# Altium footprint library VQFN.PcbLib: 4 footprints
Each footprint in its own frame and in the unit in brackets; x right, y up, seen from the top. Pads: shape width x height; smd on the part's side, far side on the other; paste and mask are expansions set on the pad; w line width, h text height; cw(c..) or ccw(c..) is an arc to the next point about the centre after c.
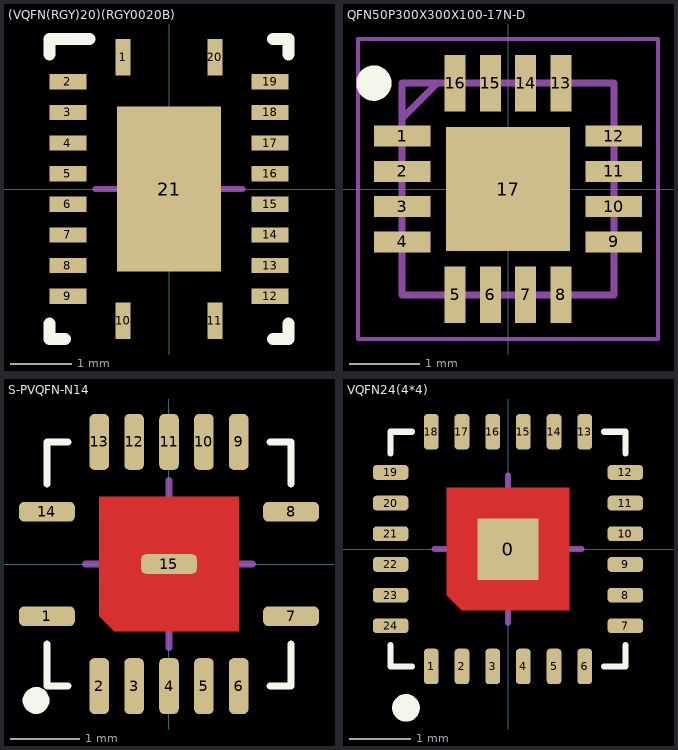
[diagram p0: the footprints below, top view; thin cyan lines are the x and y axes]

## (VQFN(RGY)20)(RGY0020B) [mm]
pads (21):
  rect 0.25x0.6 smd paste+0 mask+0.051: 1(-0.75,2.15) 10(-0.75,-2.15) 11(0.75,-2.15) 20(0.75,2.15)
  rect 0.6x0.25 smd paste+0 mask+0.051: 2(-1.65,1.75) 3(-1.65,1.25) 4(-1.65,0.75) 5(-1.65,0.25) 6(-1.65,-0.25) 7(-1.65,-0.75) 8(-1.65,-1.25) 9(-1.65,-1.75) 12(1.65,-1.75) 13(1.65,-1.25) 14(1.65,-0.75) 15(1.65,-0.25) 16(1.65,0.25) 17(1.65,0.75) 18(1.65,1.25) 19(1.65,1.75)
  rect 1.7x2.7 smd paste-1.337 mask+0.051: 21(0,0)
Top Overlay:
  lines w0.2: -1.95,-2.2 -1.95,-2.45 -1.7,-2.45 ; -1.95,2.2 -1.95,2.45 -1.3,2.45 ; 1.7,-2.45 1.95,-2.45 1.95,-2.2 ; 1.7,2.45 1.95,2.45 1.95,2.2
Top Paste:
  region: 0.774,-1.288 0.774,-0.1 -0.774,-0.1 -0.774,-1.288
  region: 0.774,0.1 0.774,1.288 -0.774,1.288 -0.774,0.1
Mechanical 15:
  circle w0.1: c0,0 r0.5
  lines w0.1: -1.2,0 0,0 ; 0,-1.2 0,0 ; 0,1.2 0,0 ; 1.2,0 0,0
3D body "User Library-20-VQFN (3_5x4_5).STEP": height 0.85, standoff -0.05, extent -1.76,-2.26 1.76,2.26

## QFN50P300X300X100-17N-D [mm]
pads (17):
  rect 0.8x0.3 smd: 1(-1.5,0.75) 2(-1.5,0.25) 3(-1.5,-0.25) 4(-1.5,-0.75) 9(1.5,-0.75) 10(1.5,-0.25) 11(1.5,0.25) 12(1.5,0.75)
  rect 0.3x0.8 smd: 5(-0.75,-1.5) 6(-0.25,-1.5) 7(0.25,-1.5) 8(0.75,-1.5) 13(0.75,1.5) 14(0.25,1.5) 15(-0.25,1.5) 16(-0.75,1.5)
  rect 1.75x1.75 smd: 17(0,0)
Top Overlay:
  circle w0.25: c-1.9,1.5 r0.125
Mechanical 13:
  lines w0.1: -1.5,1 -1,1.5 ; -1.5,-1.5 1.5,-1.5 1.5,1.5 -1.5,1.5 -1.5,-1.5
Mechanical 15:
  lines w0.05: -2.125,-2.125 2.125,-2.125 2.125,2.125 -2.125,2.125 -2.125,-2.125
3D body "THVD1424RGTR.stp": height 1, standoff 0, extent -1.5,-1.5 1.5,1.5

## S-PVQFN-N14 [mm]
pads (15):
  rrect50% 0.8x0.28 smd: 1(-1.75,-0.75) 7(1.75,-0.75) 8(1.75,0.75) 14(-1.75,0.75) 15(0,0)
  rrect50% 0.28x0.8 smd: 2(-1,-1.75) 3(-0.5,-1.75) 4(0,-1.75) 5(0.5,-1.75) 6(1,-1.75) 9(1,1.75) 10(0.5,1.75) 11(0,1.75) 12(-0.5,1.75) 13(-1,1.75)
Top Layer:
  region: -1,0.965 -1,-0.75 -0.785,-0.965 1,-0.965 1,0.965
Top Overlay:
  circle w0.2: c-1.905,-1.956 r0.092
  lines w0.1: -1.75,-1.15 -1.75,-1.75 -1.45,-1.75 ; -1.75,1.15 -1.75,1.75 -1.45,1.75 ; 1.45,-1.75 1.75,-1.75 1.75,-1.15 ; 1.45,1.75 1.75,1.75 1.75,1.15
Top Solder:
  region: -1,0.965 -1,-0.75 -0.785,-0.965 1,-0.965 1,0.965
Mechanical 15:
  circle w0.1: c0,0 r0.5
  lines w0.1: -1.2,0 0,0 ; 0,-1.2 0,0 ; 0,1.2 0,0 ; 1.2,0 0,0
3D body "RGY0014A.stp": height 0.97, standoff 0, extent -1.75,-1.75 1.75,1.75

## VQFN24(4*4) [mm]
pads (25):
  rect 1x1 smd: 0(0,0)
  rrect50% 0.24x0.58 smd: 1(-1.25,-1.913) 2(-0.75,-1.913) 3(-0.25,-1.913) 4(0.25,-1.913) 5(0.75,-1.913) 6(1.25,-1.913) 13(1.25,1.913) 14(0.75,1.913) 15(0.25,1.913) 16(-0.25,1.913) 17(-0.75,1.913) 18(-1.25,1.913)
  rrect50% 0.58x0.24 smd: 7(1.913,-1.25) 8(1.913,-0.75) 9(1.913,-0.25) 10(1.913,0.25) 11(1.913,0.75) 12(1.913,1.25) 19(-1.913,1.25) 20(-1.913,0.75) 21(-1.913,0.25) 22(-1.913,-0.25) 23(-1.913,-0.75) 24(-1.913,-1.25)
Top Layer:
  region: -1,1 1,1 1,-1 -0.75,-1 -1,-0.75
Top Overlay:
  circle w0.25: c-1.662,-2.588 r0.1
  lines w0.1: -1.913,-1.563 -1.913,-1.913 -1.563,-1.913 ; -1.913,1.563 -1.913,1.913 -1.563,1.913 ; 1.563,-1.913 1.913,-1.913 1.913,-1.563 ; 1.563,1.913 1.913,1.913 1.913,1.563
Top Solder:
  region: -1,1 1,1 1,-1 -0.75,-1 -1,-0.75
Mechanical 15:
  circle w0.1: c0,0 r0.5
  lines w0.1: -1.2,0 0,0 ; 0,-1.2 0,0 ; 0,1.2 0,0 ; 1.2,0 0,0
3D body "QFN24-4X4.STEP": height 0.95, standoff -0.05, extent -2.01,-2.01 2.01,2.01